# Altium footprint library PCB - CONNECTOR - USB - Amphenol ICC 10132328-10011LF.PcbLib: 1 footprints
Each footprint in its own frame and in the unit in brackets; x right, y up, seen from the top. Pads: shape width x height; smd on the part's side, far side on the other; paste and mask are expansions set on the pad; w line width, h text height; cw(c..) or ccw(c..) is an arc to the next point about the centre after c.
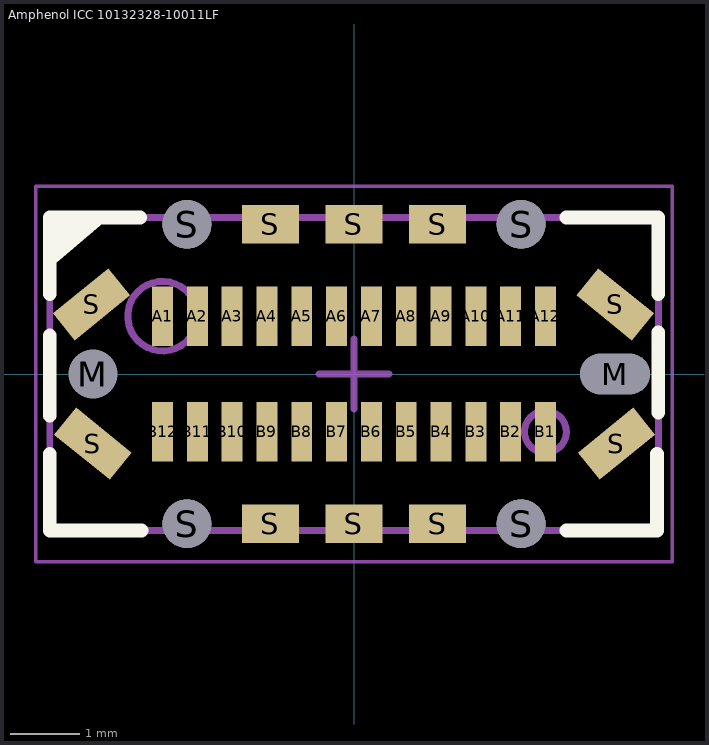
[diagram p0: the footprint, top view; thin cyan lines are the x and y axes]

## Amphenol ICC 10132328-10011LF [mm] "USB-C  Receptacle Connector 24 Position Surface Mount - Through Hole, 24 Contacts, Body 8.74x2.96mm"
height 8.8
pads (40):
  rect 0.3x0.85 smd: A1(-2.75,0.83) A2(-2.25,0.83) A3(-1.75,0.83) A4(-1.25,0.83) A5(-0.75,0.83) A6(-0.25,0.83) A7(0.25,0.83) A8(0.75,0.83) A9(1.25,0.83) A10(1.75,0.83) A11(2.25,0.83) A12(2.75,0.83) B1(2.75,-0.83) B2(2.25,-0.83) B3(1.75,-0.83) B4(1.25,-0.83) B5(0.75,-0.83) B6(0.25,-0.83) B7(-0.25,-0.83) B8(-0.75,-0.83) B9(-1.25,-0.83) B10(-1.75,-0.83) B11(-2.25,-0.83) B12(-2.75,-0.83)
  round 0.66 hole 0.7: M(-3.75,0)
  oval 1x0.58 hole 0.58 slot 1 at 0 deg unplated: M(3.75,0)
  rect 1.03x0.5 smd rot 39: S(-3.77,1) S(3.77,-1)
  rect 1.03x0.5 smd rot 141: S(-3.75,-1) S(3.75,1)
  round 0.7 hole 0.7 unplated: S(-2.4,-2.15) S(-2.4,2.15) S(2.4,-2.15) S(2.4,2.15)
  rect 0.82x0.55 smd: S(-1.2,-2.15) S(-1.2,2.15) S(0,-2.15) S(0,2.15) S(1.2,-2.15) S(1.2,2.15)
Top Overlay:
  region: -4.37,1.522 -4.37,2.25 -3.509,2.25
  lines w0.2: -4.37,-1.15 -4.37,-2.25 -3.05,-2.25 ; -4.37,-0.6 -4.37,0.55 ; -4.37,1.15 -4.37,2.25 -3.07,2.25 ; 3.05,-2.25 4.35,-2.25 4.35,-1.15 ; 3.05,2.25 4.37,2.25 4.37,1.15 ; 4.37,-0.55 4.37,0.6
Mechanical 13:
  circle w0.1: c-2.75,0.83 r0.5
  circle w0.1: c2.75,-0.83 r0.3
  lines w0.1: -4.37,-2.25 -4.37,2.25 4.37,2.25 4.37,-2.25 -4.37,-2.25
Mechanical 15:
  lines w0.05: -4.57,-2.7 -4.57,2.7 4.57,2.7 4.57,-2.7 -4.57,-2.7
  lines w0.1: -0.5,0 0,0 ; 0,-0.5 0,0 ; 0,0.5 0,0 ; 0.5,0 0,0
3D body "Amphenol ICC - 10132328-10011LF v5.step": height 8.95, standoff -1.23, extent -4.37,-2.25 4.37,2.25